# Altium footprint library ld_pulser.PcbLib: 47 footprints (part 3 of 3)
Each footprint in its own frame and in the unit in brackets; x right, y up, seen from the top. Pads: shape width x height; smd on the part's side, far side on the other; paste and mask are expansions set on the pad; w line width, h text height; cw(c..) or ccw(c..) is an arc to the next point about the centre after c.
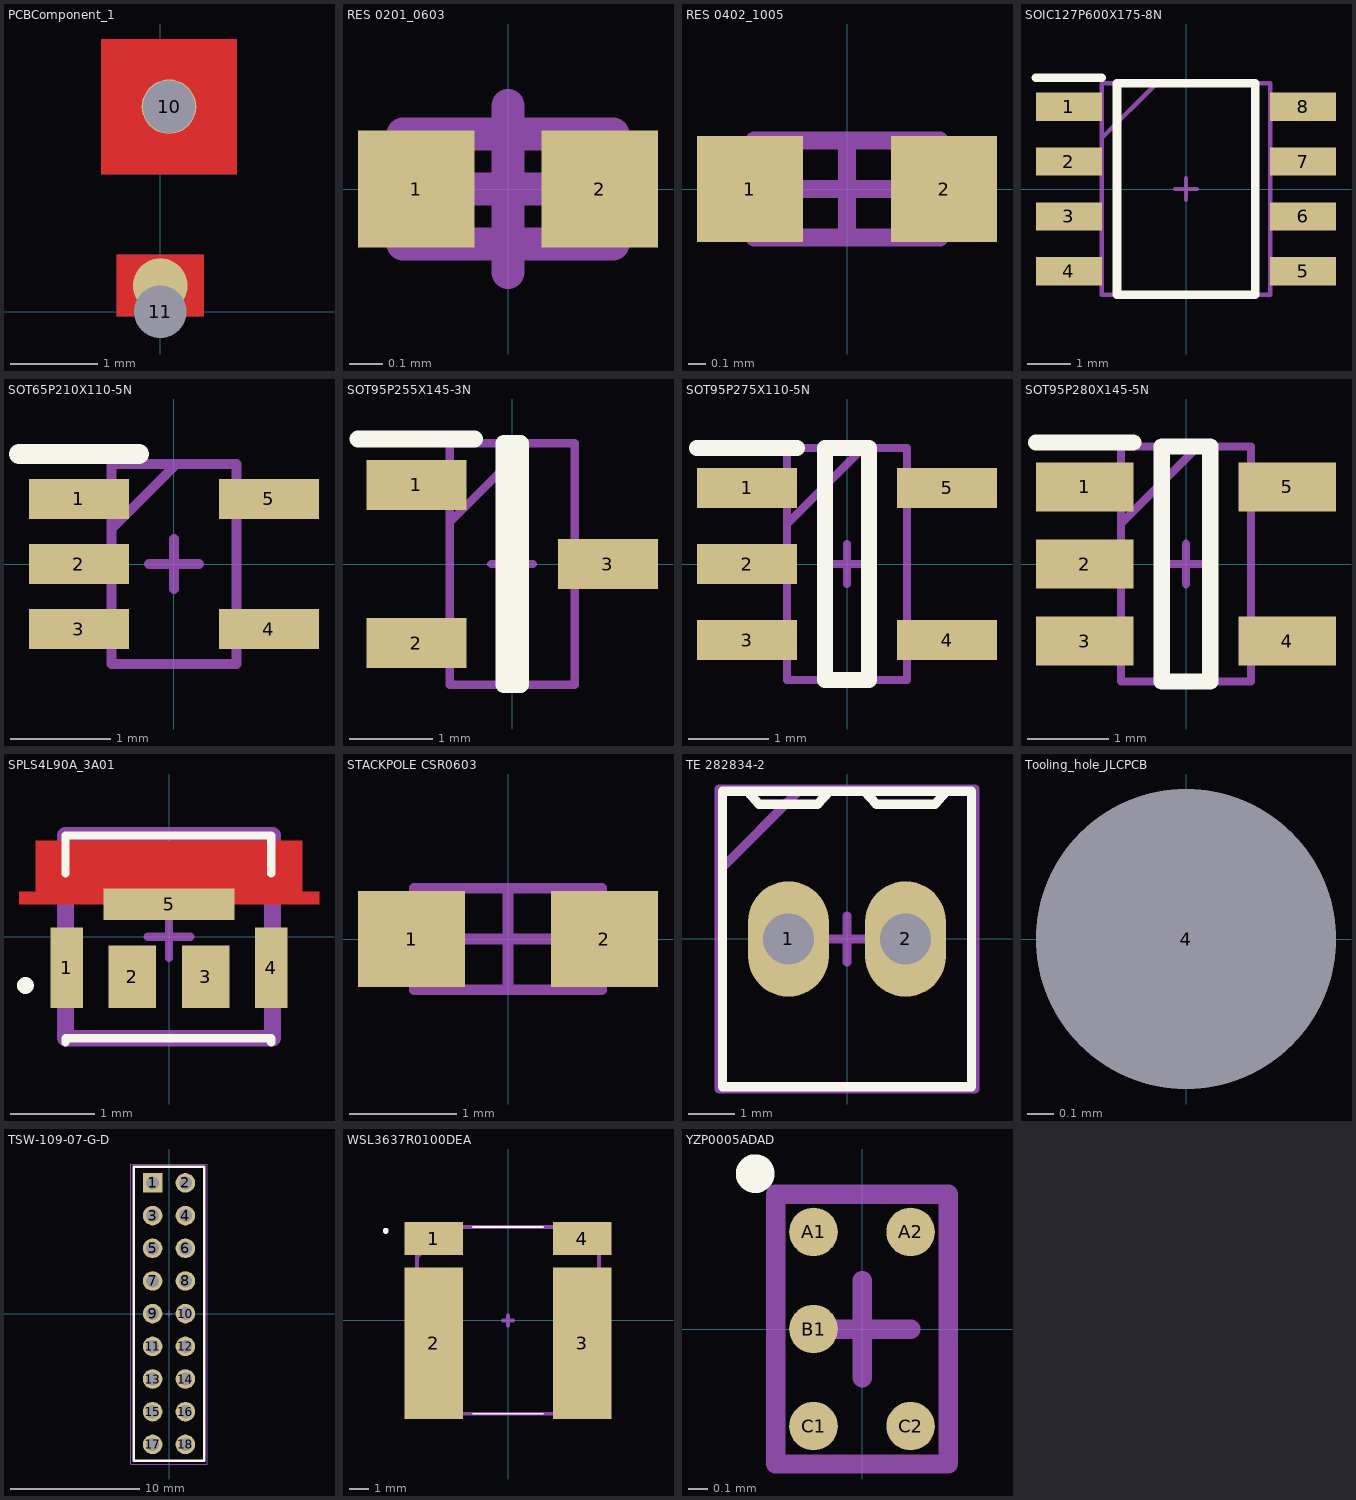
[diagram p2: the footprints below, top view; thin cyan lines are the x and y axes]

## PCBComponent_1 [mm]
pads (2):
  round 0.625 hole 0.6: 10(0.1,2.35)
  round 0.625 hole 0.6 copper offset 0,0.3: 11(0,0)
Top Layer:
  region: -0.675,3.125 -0.675,1.575 0.875,1.575 0.875,3.125
  region: -0.5,-0.05 -0.3,-0.05 -0.299,-0.021 -0.287,0.037 -0.265,0.091 -0.232,0.14 -0.19,0.182 -0.141,0.215 -0.087,0.237 -0.029,0.249 0.029,0.249 0.087,0.237 0.141,0.215 0.19,0.182 0.232,0.14 0.265,0.091 0.287,0.037 0.299,-0.021 0.3,-0.05 0.5,-0.05 0.5,0.65 -0.5,0.65
Int1 (GND):
  region: -0.675,3.125 -0.675,1.575 0.875,1.575 0.875,3.125
  region: -0.5,-0.05 -0.3,-0.05 -0.299,-0.021 -0.287,0.037 -0.265,0.091 -0.232,0.14 -0.19,0.182 -0.141,0.215 -0.087,0.237 -0.029,0.249 0.029,0.249 0.087,0.237 0.141,0.215 0.19,0.182 0.232,0.14 0.265,0.091 0.287,0.037 0.299,-0.021 0.3,-0.05 0.5,-0.05 0.5,0.65 -0.5,0.65
Int2 (Sign):
  region: -0.675,3.125 -0.675,1.575 0.875,1.575 0.875,3.125
  region: -0.5,-0.05 -0.3,-0.05 -0.299,-0.021 -0.287,0.037 -0.265,0.091 -0.232,0.14 -0.19,0.182 -0.141,0.215 -0.087,0.237 -0.029,0.249 0.029,0.249 0.087,0.237 0.141,0.215 0.19,0.182 0.232,0.14 0.265,0.091 0.287,0.037 0.299,-0.021 0.3,-0.05 0.5,-0.05 0.5,0.65 -0.5,0.65
Int3 (Sign):
  region: -0.675,3.125 -0.675,1.575 0.875,1.575 0.875,3.125
  region: -0.5,-0.05 -0.3,-0.05 -0.299,-0.021 -0.287,0.037 -0.265,0.091 -0.232,0.14 -0.19,0.182 -0.141,0.215 -0.087,0.237 -0.029,0.249 0.029,0.249 0.087,0.237 0.141,0.215 0.19,0.182 0.232,0.14 0.265,0.091 0.287,0.037 0.299,-0.021 0.3,-0.05 0.5,-0.05 0.5,0.65 -0.5,0.65
Int4 (PWR):
  region: -0.675,3.125 -0.675,1.575 0.875,1.575 0.875,3.125
  region: -0.5,-0.05 -0.3,-0.05 -0.299,-0.021 -0.287,0.037 -0.265,0.091 -0.232,0.14 -0.19,0.182 -0.141,0.215 -0.087,0.237 -0.029,0.249 0.029,0.249 0.087,0.237 0.141,0.215 0.19,0.182 0.232,0.14 0.265,0.091 0.287,0.037 0.299,-0.021 0.3,-0.05 0.5,-0.05 0.5,0.65 -0.5,0.65
Bottom Layer:
  region: -0.675,3.125 -0.675,1.575 0.875,1.575 0.875,3.125
  region: -0.5,-0.05 -0.3,-0.05 -0.299,-0.021 -0.287,0.037 -0.265,0.091 -0.232,0.14 -0.19,0.182 -0.141,0.215 -0.087,0.237 -0.029,0.249 0.029,0.249 0.087,0.237 0.141,0.215 0.19,0.182 0.232,0.14 0.265,0.091 0.287,0.037 0.299,-0.021 0.3,-0.05 0.5,-0.05 0.5,0.65 -0.5,0.65

## RES 0201_0603 [mm] "Chip Resistor, 2-Leads, Body 0.60x0.30mm, IPC Medium Density"
height 0.26
pads (2):
  rect 0.35x0.35 smd: 1(-0.275,0) 2(0.275,0)
Top Assembly:
  lines w0.1: -0.315,-0.165 -0.315,0.165 0.315,0.165 0.315,-0.165 -0.315,-0.165
Top Component Center (Mech15):
  lines w0.1: -0.25,0 0.25,0 ; 0,-0.25 0,0.25
3D body "RES 0201.STEP": height 0.21, standoff -0.01, extent -0.3,-0.15 0.3,0.15

## RES 0402_1005 [mm] "Chip Resistor, 2-Leads, Body 1.0x0.5mm, IPC Medium Density"
height 0.4
pads (2):
  rect 0.6x0.6 smd: 1(-0.55,0) 2(0.55,0)
Top Assembly:
  lines w0.1: -0.525,-0.275 0.525,-0.275 0.525,0.275 -0.525,0.275 -0.525,-0.275
Top Component Center (Mech15):
  lines w0.1: -0.25,0 0.25,0 ; 0,-0.25 0,0.25
3D body "0402 resistor.STEP": height 0.35, standoff 0, extent -0.5,-0.25 0.5,0.25

## SOIC127P600X175-8N [mm]
pads (8):
  rect 1.525x0.65 smd: 1(-2.712,1.905) 2(-2.712,0.635) 3(-2.712,-0.635) 4(-2.712,-1.905) 5(2.712,-1.905) 6(2.712,-0.635) 7(2.712,0.635) 8(2.712,1.905)
Top Overlay:
  lines w0.2: -3.475,2.58 -1.95,2.58 ; -1.6,-2.45 1.6,-2.45 1.6,2.45 -1.6,2.45 -1.6,-2.45
Top Assembly:
  lines w0.1: -1.95,1.18 -0.68,2.45 ; -1.95,-2.45 -1.95,2.45 1.95,2.45 1.95,-2.45 -1.95,-2.45
Top Component Center (Mech15):
  lines w0.1: -0.25,0 0.25,0 ; 0,-0.25 0,0.25
3D body "NE555DR.stp": height 1.75, standoff 0, extent -3,-2.45 3,2.45

## SOT65P210X110-5N [mm]
pads (5):
  rect 1x0.4 smd: 1(-0.95,0.65) 2(-0.95,0) 3(-0.95,-0.65) 4(0.95,-0.65) 5(0.95,0.65)
Top Overlay:
  lines w0.2: -1.55,1.1 -0.35,1.1
Top Assembly:
  lines w0.1: -0.625,0.35 0.025,1 ; -0.625,-1 0.625,-1 0.625,1 -0.625,1 -0.625,-1
Top Component Center (Mech15):
  lines w0.1: -0.25,0 0.25,0 ; 0,-0.25 0,0.25
3D body "INA290A1QDCKRQ1.stp": height 1, standoff 0, extent -1.05,-1 1.05,1

## SOT95P255X145-3N [mm]
pads (3):
  rect 1.2x0.6 smd: 1(-1.15,0.95) 2(-1.15,-0.95) 3(1.15,0)
Top Overlay:
  lines w0.2: -1.85,1.5 -0.45,1.5 ; -0.1,-1.45 -0.1,1.45 0.1,1.45 0.1,-1.45 -0.1,-1.45
Top Assembly:
  lines w0.1: -0.75,0.5 0.2,1.45 ; -0.75,-1.45 -0.75,1.45 0.75,1.45 0.75,-1.45 -0.75,-1.45
Top Component Center (Mech15):
  lines w0.1: -0.25,0 0.25,0 ; 0,-0.25 0,0.25
3D body "MCP1792T-3302H_CB.stp": height 1.45, standoff 0, extent -1.275,-1.45 1.275,1.45

## SOT95P275X110-5N [mm]
pads (5):
  rect 1.25x0.5 smd: 1(-1.25,0.95) 2(-1.25,0) 3(-1.25,-0.95) 4(1.25,-0.95) 5(1.25,0.95)
Top Overlay:
  lines w0.2: -1.875,1.45 -0.625,1.45 ; -0.275,-1.45 -0.275,1.45 0.275,1.45 0.275,-1.45 -0.275,-1.45
Top Assembly:
  lines w0.1: -0.75,0.5 0.2,1.45 ; -0.75,-1.45 -0.75,1.45 0.75,1.45 0.75,-1.45 -0.75,-1.45
Top Component Center (Mech15):
  lines w0.1: -0.25,0 0.25,0 ; 0,-0.25 0,0.25
3D body "74LVC1G02GV,125.stp": height 1, standoff 0, extent -1.394,-1.477 1.394,1.473

## SOT95P280X145-5N [mm]
pads (5):
  rect 1.2x0.6 smd: 1(-1.25,0.95) 2(-1.25,0) 3(-1.25,-0.95) 4(1.25,-0.95) 5(1.25,0.95)
Top Overlay:
  lines w0.2: -1.85,1.5 -0.65,1.5 ; -0.3,-1.45 0.3,-1.45 0.3,1.45 -0.3,1.45 -0.3,-1.45
Top Assembly:
  lines w0.1: -0.8,0.5 0.15,1.45 ; -0.8,-1.45 -0.8,1.45 0.8,1.45 0.8,-1.45 -0.8,-1.45
Top Component Center (Mech15):
  lines w0.1: -0.25,0 0.25,0 ; 0,-0.25 0,0.25
3D body "INA139NA_3K.stp": height 1.2, standoff 0, extent -1.4,-1.45 1.4,1.45

## SPLS4L90A_3A01 [mm]
pads (5):
  rect 0.385x0.95 smd: 1(-1.21,-0.365) 4(1.21,-0.365)
  rect 0.56x0.74 smd: 2(-0.435,-0.47) 3(0.435,-0.47)
  rect 1.55x0.375 smd: 5(0,0.387)
Top Layer:
  region: -1.775,0.385 1.775,0.385 1.775,0.535 1.575,0.535 1.575,1.135 -1.575,1.135 -1.575,0.535 -1.775,0.535
Top Overlay:
  lines w0.1: -1.225,-1.25 -1.225,-1.2 1.21,-1.2 1.21,-1.25 ; -1.225,0.75 -1.225,1.2 1.21,1.2 1.21,0.75 ; -1.75,-0.575 ccw(c-1.7,-0.575) -1.65,-0.575 ; -1.75,-0.575 cw(c-1.7,-0.575) -1.65,-0.575 ; -1.75,-0.575 ccw(c-1.7,-0.575) -1.65,-0.575
Top Solder:
  region: 1.575,1.135 1.575,0.535 1.775,0.535 1.775,1.135
  region: -1.575,1.135 -1.575,0.535 -1.775,0.535 -1.775,1.135
Top Assembly:
  lines w0.2: -1.225,-1.2 1.225,-1.2 1.225,1.2 -1.225,1.2 -1.225,-1.2
Top Component Center (Mech15):
  lines w0.1: -0.25,0 0.25,0 ; 0,-0.25 0,0.25
3D body "SPL_S4L90A_3_A01_20210810_geometry.sldprt": height 0.68, standoff 0, extent -1.675,-1.225 1.675,1.225
3D body "SPL_S4L90A_3_A01.stp": height 0.79, standoff 0, extent -1.364,-1.2 1.364,1.2

## STACKPOLE CSR0603 [mm] "Chip Resistor, 2-Leads, Body 1.60x0.80mm, IPC Medium Density"
height 0.45
pads (2):
  rect 1x0.9 smd: 1(-0.9,0) 2(0.9,0)
Top Assembly:
  lines w0.1: -0.875,-0.475 0.875,-0.475 0.875,0.475 -0.875,0.475 -0.875,-0.475
Top Component Center (Mech15):
  lines w0.1: -0.475,0 0.475,0 ; 0,-0.475 0,0.475
3D body "Stackpole CSR0603 Res.STEP": height 0.45, standoff 0, extent -0.85,-0.4 0.85,0.4

## TE 282834-2 [mm]
height 10
pads (2):
  oval 1.75x2.5 hole 1.1: 1(-1.27,0) 2(1.27,0)
Top Overlay:
  lines w0.2: -2.159,3.2 -1.905,2.921 -0.635,2.921 -0.381,3.2 ; 0.381,3.2 0.635,2.921 1.905,2.921 2.159,3.2 ; -2.7,-3.2 -2.7,3.2 2.7,3.2 2.7,-3.2 -2.6,-3.2 -2.7,-3.2
Top Assembly:
  lines w0.2: -2.77,0 -2.77,1.48 -1,3.25 ; -2.77,-3.25 2.77,-3.25 2.77,3.25 -2.77,3.25 -2.77,-3.25
Top Component Center (Mech15):
  lines w0.2: -0.5,0 0.5,0 ; 0,-0.5 0,0.5
3D body "TE Term Block 2port 282834-2-c-3d.STEP": height 10, standoff -3.4, extent -2.77,-3.25 2.77,3.25

## Tooling_hole_JLCPCB [mm]
pads (1):
  round 1.152 hole 1.152 unplated paste-2539.97 mask+0.148: 4(0,0)

## TSW-109-07-G-D [mm] "Conn header 18 pins"
pads (18):
  rect 1.52x1.52 hole 1.02: 1(-1.27,10.16)
  round 1.52 hole 1.02: 2(1.27,10.16) 3(-1.27,7.62) 4(1.27,7.62) 5(-1.27,5.08) 6(1.27,5.08) 7(-1.27,2.54) 8(1.27,2.54) 9(-1.27,0) 10(1.27,0) 11(-1.27,-2.54) 12(1.27,-2.54) 13(-1.27,-5.08) 14(1.27,-5.08) 15(-1.27,-7.62) 16(1.27,-7.62) 17(-1.27,-10.16) 18(1.27,-10.16)
Top Overlay:
  lines w0.2: -2.73,-11.43 2.73,-11.43 2.73,11.405 -2.73,11.405 -2.73,-11.43
Board:
  lines w0.05: -2.955,-11.684 -2.955,11.63 2.955,11.63 2.955,-11.684 -2.955,-11.684
Top Assembly:
  lines w0.05: -0.254,0 0.254,0 ; 0,-0.254 0,0.254
  lines w0.1: -2.73,11.405 2.73,11.405 2.73,-11.43 -2.729,-11.43 -2.73,11.405
3D body "TSW-109-07-G-D.stp": height 8.38, standoff -2.54, extent -2.54,-11.43 2.54,11.43

## WSL3637R0100DEA [mm]
pads (4):
  rect 2.95x1.68 smd: 1(-3.735,4.115) 4(3.735,4.115)
  rect 2.95x7.62 smd: 2(-3.735,-1.145) 3(3.735,-1.145)
Top Overlay:
  lines w0.1: -1.75,-4.7 1.75,-4.7 -1.75,-4.7 ; -1.75,4.7 1.75,4.7 -1.75,4.7
  lines w0.2: -6.2,4.5 ccw(c-6.15,4.5) -6.1,4.5 ; -6.2,4.5 cw(c-6.15,4.5) -6.1,4.5 ; -6.2,4.5 ccw(c-6.15,4.5) -6.1,4.5
Top Assembly:
  lines w0.2: -4.57,0 -4.57,3.18 -3.05,4.7 ; -4.57,-4.7 4.57,-4.7 4.57,4.7 -4.57,4.7 -4.57,-4.7
Top Component Center (Mech15):
  lines w0.2: -0.25,0 0.25,0 ; 0,-0.25 0,0.25
3D body "WSL3637R0100DEA.stp": height 0.64, standoff 0, extent -4.662,-4.558 4.482,4.84

## YZP0005ADAD [mm] "BGA, 5-Balls, Body 1.39x0.89mm, Pitch 0.5mm"
height 0.5
pads (5):
  round 0.25 smd: A1(-0.25,0.5) A2(0.25,0.5) B1(-0.25,0) C1(-0.25,-0.5) C2(0.25,-0.5)
Top Overlay:
  circle w0.1: c-0.55,0.8 r0.05
Top Assembly:
  lines w0.1: -0.445,-0.695 -0.445,0.695 0.445,0.695 0.445,-0.695 -0.445,-0.695
Top Component Center (Mech15):
  lines w0.1: -0.25,0 0.25,0 ; 0,-0.25 0,0.25
3D body: height 0.5, standoff 0.15, extent -0.445,-0.695 0.445,0.695